# Altium schematic symbol library 1N4 Series - Axial.SchLib: 7 symbols
Pins are listed as number, name and electrical type; pins without a type are passive.

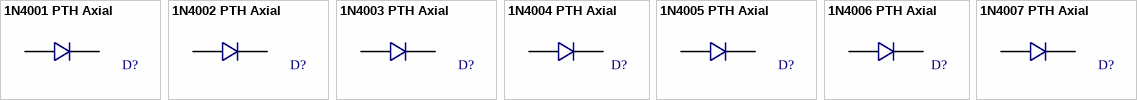
[diagram p0: symbols 1N4001 PTH Axial to 1N4007 PTH Axial]

## 1N4001 PTH Axial
designator D?, comment 1N4001 Axial  (value not drawn)
Diode Standard 50V 1A Through Hole DO-41; Manufacturer 1: ON Semiconductor; Manufacturer 1 PN: 1N4001G; ComponentLink1Description: Datasheet; ComponentLink1URL: http://www.onsemi.com/pub/Collateral/1N4001-D.PDF; Current: 1A; Voltage: 50V
footprint 1N4001 AXIAL (Diode Standard 50V 1A Through Hole DO-41)
pins: A, K

## 1N4002 PTH Axial
designator D?, comment 1N4002 Axial  (value not drawn)
Diode Standard 100V 1A Through Hole DO-41; Manufacturer 1: ON Semiconductor; ComponentLink1Description: Datasheet; ComponentLink1URL: http://www.onsemi.com/pub/Collateral/1N4001-D.PDF; Manufacturer 1 PN: 1N4002; Current: 1A; Voltage: 100V
footprint 1N4002 AXIAL (Diode Standard 100V 1A Through Hole DO-41)
pins: A, K

## 1N4003 PTH Axial
designator D?, comment 1N4003 Axial  (value not drawn)
Diode Standard 200V 1A Through Hole DO-41; Manufacturer 1: ON Semiconductor; ComponentLink1Description: Datasheet; ComponentLink1URL: http://www.onsemi.com/pub/Collateral/1N4001-D.PDF; Manufacturer 1 PN: 1N4003; Current: 1A; Voltage: 200V
footprint 1N4003 AXIAL (Diode Standard 200V 1A Through Hole DO-41)
pins: A, K

## 1N4004 PTH Axial
designator D?, comment 1N4004 Axial  (value not drawn)
Diode Standard 400V 1A Through Hole DO-41; Manufacturer 1: ON Semiconductor; ComponentLink1Description: Datasheet; ComponentLink1URL: http://www.onsemi.com/pub/Collateral/1N4001-D.PDF; Manufacturer 1 PN: 1N4004; Current: 1A; Voltage: 400V
footprint 1N4004 AXIAL (Diode Standard 400V 1A Through Hole DO-41)
pins: A, K

## 1N4005 PTH Axial
designator D?, comment 1N4005 Axial  (value not drawn)
Diode Standard 600V 1A Through Hole DO-41; Manufacturer 1: ON Semiconductor; Manufacturer 1 PN: 1N4005RLG; ComponentLink1Description: Datasheet; ComponentLink1URL: http://www.onsemi.com/pub/Collateral/1N4001-D.PDF; Current: 1A; Voltage: 600V
footprint 1N4005 AXIAL (Diode Standard 600V 1A Through Hole DO-41)
pins: A, K

## 1N4006 PTH Axial
designator D?, comment 1N4006 Axial  (value not drawn)
Diode Standard 800V 1A Through Hole Axial; Manufacturer 1: ON Semiconductor; Manufacturer 1 PN: 1N4006FFG; ComponentLink1Description: Datasheet; ComponentLink1URL: http://www.onsemi.com/pub/Collateral/1N4001-D.PDF; Current: 1A; Voltage: 800V
footprint 1N4006 AXIAL (Diode Standard 800V 1A Through Hole DO-41)
pins: A, K

## 1N4007 PTH Axial
designator D?, comment 1N4007 Axial  (value not drawn)
Diode Standard 1000V 1A Through Hole DO-41; Manufacturer 1: ON Semiconductor; ComponentLink1Description: Datasheet; ComponentLink1URL: http://www.onsemi.com/pub/Collateral/1N4001-D.PDF; Manufacturer 1 PN: 1N4007; Current: 1A; Voltage: 1000V
footprint 1N4007 AXIAL (Diode Standard 1000V 1A Through Hole DO-41)
pins: A, K